# EAGLE library part BNO055 (library BNO055)
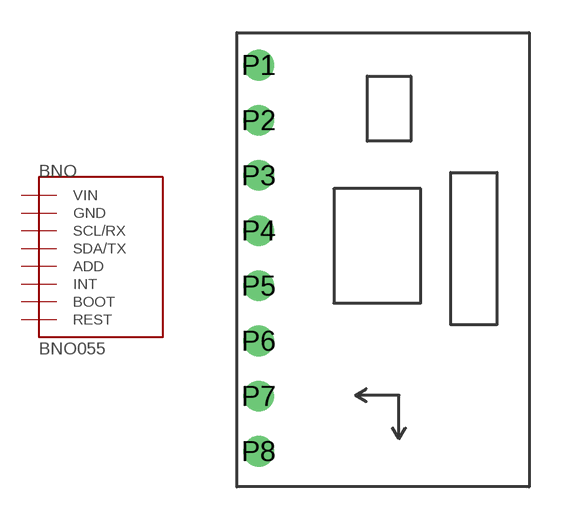
[diagram p0: symbol with the pads of BNO055; footprint BNO055]

Designator prefix BNO

## BNO055  [BNO055]
P1  VIN
P2  GND
P3  SCL/RX
P4  SDA/TX
P5  ADD
P6  INT
P7  BOOT
P8  REST

## Footprint BNO055 (pad centres in mm)
drill 0.9: P1 -7,11.5; P2 -7,8.96; P3 -7,6.42; P4 -7,3.88; P5 -7,1.34; P6 -7,-1.2; P7 -7,-3.74; P8 -7,-6.28